# Altium footprint library 0.5MM.PcbLib: 2 footprints
Each footprint in its own frame and in the unit in brackets; x right, y up, seen from the top. Pads: shape width x height; smd on the part's side, far side on the other; paste and mask are expansions set on the pad; w line width, h text height; cw(c..) or ccw(c..) is an arc to the next point about the centre after c.
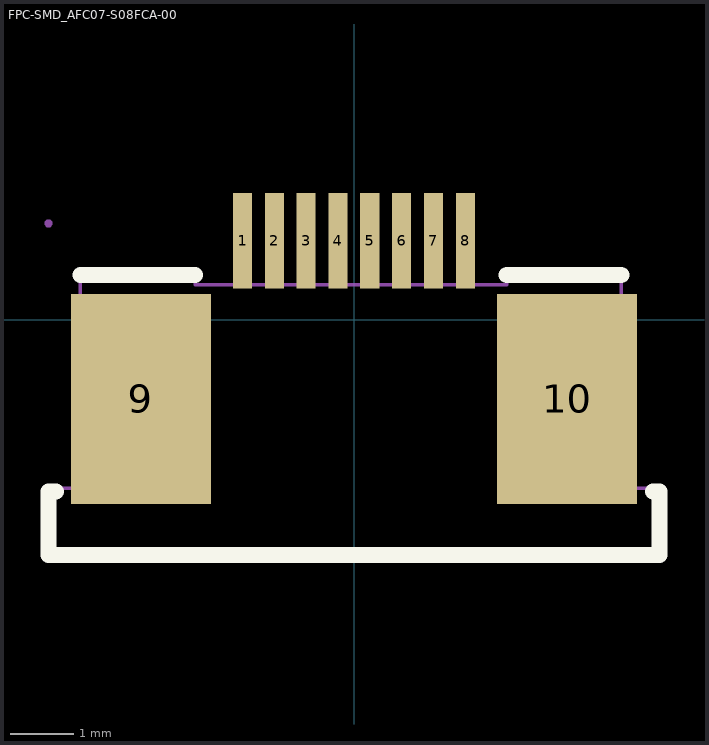
[diagram p0: the footprints below, top view; thin cyan lines are the x and y axes]

## FPC-SMD_AFC07-S08FCA-00 [mm]
pads (10):
  rect 0.3x1.5 smd: 1(-1.751,1.243) 2(-1.252,1.243) 3(-0.753,1.243) 4(-0.252,1.243) 5(0.248,1.243) 6(0.748,1.243) 7(1.249,1.243) 8(1.749,1.243)
  rect 2.2x3.3 smd: 9(-3.35,-1.243) 10(3.35,-1.243)
Top Overlay:
  lines w0.254: -4.682,-2.7 -4.8,-2.7 -4.8,-3.7 4.8,-3.7 4.8,-2.7 4.7,-2.7 ; -4.3,0.7 -2.5,0.7 ; 2.4,0.7 4.2,0.7
Mechanical 15:
  region: -4.74,1.513 -4.74,1.538 -4.775,1.573 -4.825,1.573 -4.86,1.538 -4.86,1.513 -4.86,1.488 -4.825,1.453 -4.775,1.453 -4.74,1.488 -4.74,1.513
  region: 1.649,1.513 1.849,1.513 1.849,0.513 1.649,0.513
  region: 1.149,1.513 1.349,1.513 1.349,0.513 1.149,0.513
  region: 0.648,1.513 0.848,1.513 0.848,0.513 0.648,0.513
  region: 0.148,1.513 0.348,1.513 0.348,0.513 0.148,0.513
  region: -0.352,1.513 -0.152,1.513 -0.152,0.513 -0.352,0.513
  region: -0.853,1.513 -0.653,1.513 -0.653,0.513 -0.853,0.513
  region: -1.352,1.513 -1.152,1.513 -1.152,0.513 -1.352,0.513
  region: -1.851,1.513 -1.651,1.513 -1.651,0.513 -1.851,0.513
  region: 4.1,-2.643 2.6,-2.643 2.6,0.157 4.1,0.157
  region: -2.6,-2.643 -4.1,-2.643 -4.1,0.157 -2.6,0.157
  lines w0.051: -4.8,-3.65 4.8,-3.65 4.8,-2.65 4.2,-2.65 4.2,0.75 2.4,0.75 2.4,0.55 -2.5,0.55 -2.5,0.75 -4.3,0.75 -4.3,-2.65 -4.8,-2.65 -4.8,-3.65

## PCBComponent_1 [mm]